# Altium footprint library Inductors SMD.PcbLib: 75 footprints (part 4 of 5)
Each footprint in its own frame and in the unit in brackets; x right, y up, seen from the top. Pads: shape width x height; smd on the part's side, far side on the other; paste and mask are expansions set on the pad; w line width, h text height; cw(c..) or ccw(c..) is an arc to the next point about the centre after c.
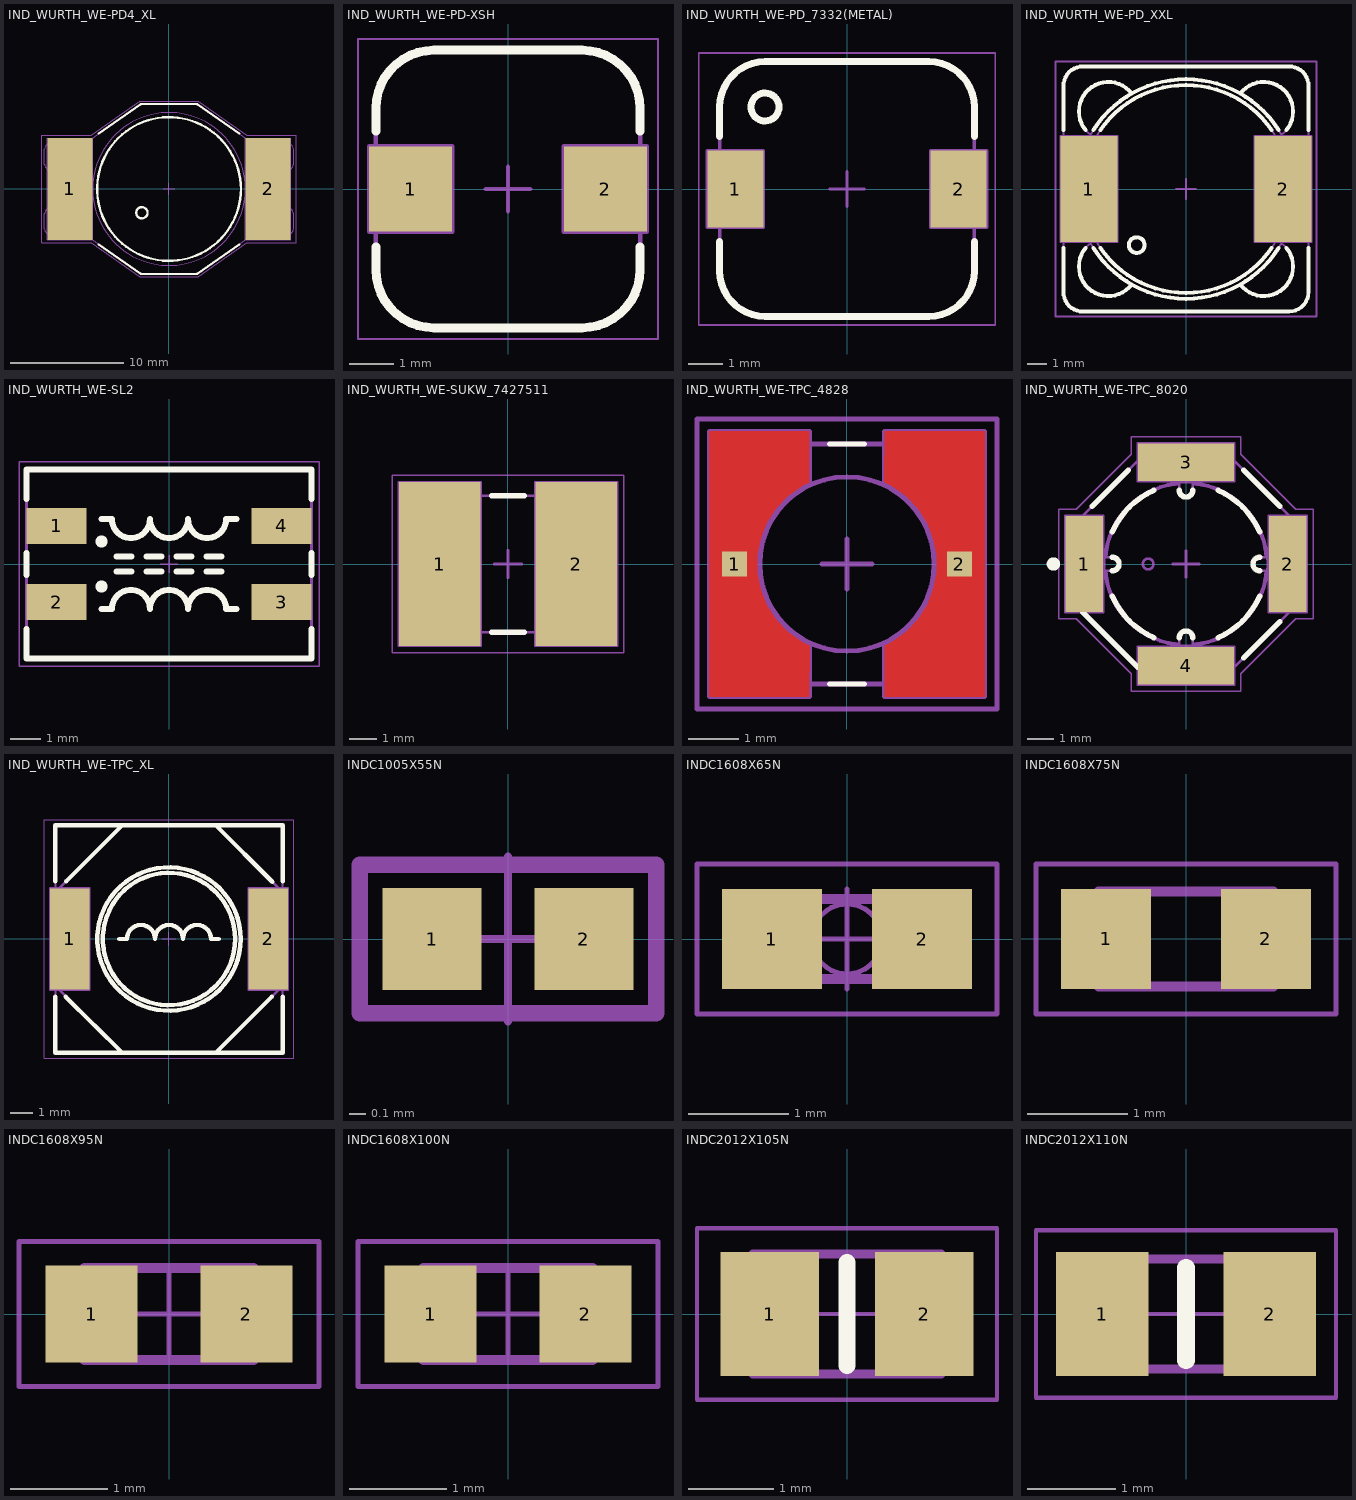
[diagram p3: the footprints below, top view; thin cyan lines are the x and y axes]

## IND_WURTH_WE-PD4_XL [mm] "SMD Power Choke, Body Width 15mm Body Lenght 15mm Height 7.8mm, WURTH WE-PD 4 Serie Type XL"
height 7.8
pads (2):
  rect 4x9 smd: 1(-8.75,0) 2(8.75,0)
Top Overlay:
  circle w0.2: c-2.395,-2.099 r0.5
  circle w0.2: c0,0 r6.35
  lines w0.2: -6.214,-4.9 -2.552,-7.464 ccw(c-2.437,-7.3) -2.437,-7.5 2.437,-7.5 ccw(c2.437,-7.3) 2.552,-7.464 6.214,-4.9 ; -6.214,4.9 -2.552,7.464 cw(c-2.437,7.3) -2.437,7.5 2.437,7.5 cw(c2.437,7.3) 2.552,7.464 6.214,4.9
Mechanical 8:
  lines w0.1: -9.25,0 -8.75,0 ; -8.75,-0.5 -8.75,0 ; -8.75,0.5 -8.75,0 ; -8.25,0 -8.75,0 ; -0.5,0 0,0 ; 0,-0.5 0,0 ; 0,0.5 0,0 ; 0.5,0 0,0 ; 8.25,0 8.75,0 ; 8.75,-0.5 8.75,0 ; 8.75,0.5 8.75,0 ; 9.25,0 8.75,0 ; -10.75,-4.5 -6.75,-4.5 -6.75,4.5 -10.75,4.5 -10.75,-4.5 ; 6.75,-4.5 10.75,-4.5 10.75,4.5 6.75,4.5 6.75,-4.5
Mechanical 14:
  circle w0.1: c-2.395,-2.099 r0.5
  circle w0.1: c0,0 r6.75
  lines w0.1: -9.8,-3 -10,-3 -10,-3.5 cw(c-10.5,-3.5) -11,-3.5 -11,-2.2 cw(c-10.5,-2.2) -10.852,-1.845 -10.059,-1.059 ccw(c-10.2,-0.917) -10,-0.917 -10,0.917 ccw(c-10.2,0.917) -10.059,1.059 -10.852,1.845 cw(c-10.5,2.2) -11,2.2 -11,3.5 cw(c-10.5,3.5) -10,3.5 -10,3 -9.8,3 ; -7.5,-3.896 ccw(c-7.3,-3.896) -7.415,-4.06 -2.552,-7.464 ccw(c-2.437,-7.3) -2.437,-7.5 2.437,-7.5 ccw(c2.437,-7.3) 2.552,-7.464 7.415,-4.06 ccw(c7.3,-3.896) 7.5,-3.896 ; -7.5,3.896 cw(c-7.3,3.896) -7.415,4.06 -2.552,7.464 cw(c-2.437,7.3) -2.437,7.5 2.437,7.5 cw(c2.437,7.3) 2.552,7.464 7.415,4.06 cw(c7.3,3.896) 7.5,3.896 ; 9.8,-3 10,-3 10,-3.5 ccw(c10.5,-3.5) 11,-3.5 11,-2.2 ccw(c10.5,-2.2) 10.852,-1.845 10.059,-1.059 cw(c10.2,-0.917) 10,-0.917 10,0.917 cw(c10.2,0.917) 10.059,1.059 10.852,1.845 ccw(c10.5,2.2) 11,2.2 11,3.5 ccw(c10.5,3.5) 10,3.5 10,3 9.8,3 ; -9.8,-4 -9.8,4 -7.5,4 -7.5,-4 -9.8,-4 ; 7.5,-4 7.5,4 9.8,4 9.8,-4 7.5,-4
Mechanical 15:
  lines w0.1: -11.25,-4.75 -6.865,-4.75 -2.579,-7.75 2.579,-7.75 6.865,-4.75 11.25,-4.75 11.25,4.75 6.865,4.75 2.579,7.75 -2.579,7.75 -6.865,4.75 -11.25,4.75 -11.25,-4.75
3D body "IND_WURTH_WE-PD4-XL.stp": height 7, standoff 0, extent -11,-7.5 11,7.5

## IND_WURTH_WE-PD-XSH [mm] "Power-Choke Inductor, Body 6.2x5.9mm, WURTH WE-PD Serie Type XSH"
height 5.1
pads (2):
  rect 1.85x1.9 smd: 1(-2.175,0) 2(2.175,0)
Top Overlay:
  lines w0.2: -2.95,-1.3 -2.95,-1.8 ccw(c-1.65,-1.8) -1.65,-3.1 1.65,-3.1 ccw(c1.65,-1.8) 2.95,-1.8 2.95,-1.3 ; -2.95,1.3 -2.95,1.8 cw(c-1.65,1.8) -1.65,3.1 1.65,3.1 cw(c1.65,1.8) 2.95,1.8 2.95,1.3
Mechanical 8:
  lines w0.1: -2.675,0 -2.175,0 ; -2.175,-0.5 -2.175,0 ; -2.175,0.5 -2.175,0 ; -1.675,0 -2.175,0 ; -0.5,0 0,0 ; 0,-0.5 0,0 ; 0,0.5 0,0 ; 0.5,0 0,0 ; 1.675,0 2.175,0 ; 2.175,-0.5 2.175,0 ; 2.175,0.5 2.175,0 ; 2.675,0 2.175,0 ; -3.1,-0.95 -1.25,-0.95 -1.25,0.95 -3.1,0.95 -3.1,-0.95 ; 1.25,-0.95 3.1,-0.95 3.1,0.95 1.25,0.95 1.25,-0.95
Mechanical 14:
  lines w0.1: -2.95,-1.8 ccw(c-1.65,-1.8) -1.65,-3.1 1.65,-3.1 ccw(c1.65,-1.8) 2.95,-1.8 2.95,1.8 ccw(c1.65,1.8) 1.65,3.1 -1.65,3.1 ccw(c-1.65,1.8) -2.95,1.8 -2.95,-1.8
Mechanical 15:
  lines w0.05: -3.35,-3.35 3.35,-3.35 3.35,3.35 -3.35,3.35 -3.35,-3.35
3D body "IND_WURTH_WE-PD-XSH.stp": height 5.1, standoff 0, extent -2.95,-3.1 2.95,3.1

## IND_WURTH_WE-PD_7332(METAL) [mm] "Power Choke, WE-PD Serie, Body 7.3x7.3mm (Metal Base)"
height 3.4
pads (2):
  rect 1.6x2.2 smd: 1(-3.2,0) 2(3.2,0)
Top Overlay:
  circle w0.2: c-2.35,2.35 r0.4
  lines w0.2: -3.65,-1.5 -3.65,-2.35 ccw(c-2.35,-2.35) -2.35,-3.65 2.35,-3.65 ccw(c2.35,-2.35) 3.65,-2.35 3.65,-1.5 ; -3.65,1.5 -3.65,2.35 cw(c-2.35,2.35) -2.35,3.65 2.35,3.65 cw(c2.35,2.35) 3.65,2.35 3.65,1.5
Mechanical 8:
  lines w0.1: -3.7,0 -3.2,0 ; -3.2,-0.5 -3.2,0 ; -3.2,0.5 -3.2,0 ; -2.7,0 -3.2,0 ; -0.5,0 0,0 ; 0,-0.5 0,0 ; 0,0.5 0,0 ; 0.5,0 0,0 ; 2.7,0 3.2,0 ; 3.2,-0.5 3.2,0 ; 3.2,0.5 3.2,0 ; 3.7,0 3.2,0 ; -2.4,-1.1 -4,-1.1 -4,1.1 -2.4,1.1 ; -2.4,-1.1 -2.4,1.1 ; -2.4,-1.1 -2.4,1.1 ; 4,-1.1 2.4,-1.1 2.4,1.1 4,1.1 ; 4,-1.1 4,1.1 ; 4,-1.1 4,1.1
Mechanical 14:
  circle w0.1: c-2.35,2.35 r0.4
  lines w0.1: -3.65,-2.35 ccw(c-2.35,-2.35) -2.35,-3.65 2.35,-3.65 ccw(c2.35,-2.35) 3.65,-2.35 3.65,2.35 ccw(c2.35,2.35) 2.35,3.65 -2.35,3.65 ccw(c-2.35,2.35) -3.65,2.35 -3.65,-2.35
Mechanical 15:
  lines w0.05: -4.25,-3.9 -4.25,3.9 4.25,3.9 4.25,-3.9 -4.25,-3.9
3D body "IND_WURTH_WE-PD_7332(METAL).stp": height 3.4, standoff 0, extent -3.65,-3.65 3.65,3.65

## IND_WURTH_WE-PD_XXL [mm] "Power-Choke Inductor, Body 12x12mm, WURTH WE-PD Serie Type XXL"
height 10
pads (2):
  rect 2.9x5.4 smd: 1(-4.95,0) 2(4.95,0)
Top Overlay:
  circle w0.2: c-2.51,-2.86 r0.4
  lines w0.2: -6.25,-3 -6.25,-5.25 ccw(c-5.25,-5.25) -5.25,-6.25 5.25,-6.25 ccw(c5.25,-5.25) 6.25,-5.25 6.25,-3 ; -6.25,3 -6.25,5.25 cw(c-5.25,5.25) -5.25,6.25 5.25,6.25 cw(c5.25,5.25) 6.25,5.25 6.25,3 ; -5.113,-3 ccw(c-3.96,-3.96) -2.767,-4.869 ; -5.113,3 cw(c-3.96,3.96) -2.767,4.869 ; -4.729,-3 ccw(c0,0) 4.729,-3 ; -4.729,3 cw(c0,0) 4.729,3 ; -4.369,-3 ccw(c0,0) 4.369,-3 ; -4.369,3 cw(c0,0) 4.369,3 ; 2.767,-4.869 ccw(c3.96,-3.96) 5.113,-3 ; 2.767,4.869 cw(c3.96,3.96) 5.113,3
Mechanical 8:
  lines w0.1: -5.45,0 -4.95,0 ; -4.95,-0.5 -4.95,0 ; -4.95,0.5 -4.95,0 ; -4.45,0 -4.95,0 ; -0.5,0 0,0 ; 0,-0.5 0,0 ; 0,0.5 0,0 ; 0.5,0 0,0 ; 4.45,0 4.95,0 ; 4.95,-0.5 4.95,0 ; 4.95,0.5 4.95,0 ; 5.45,0 4.95,0 ; -3.5,-2.7 -3.5,2.7 ; -3.5,-2.7 -3.5,2.7 ; -3.5,-2.7 -6.4,-2.7 -6.4,2.7 -3.5,2.7 ; 3.5,-2.7 3.5,2.7 ; 3.5,-2.7 6.4,-2.7 6.4,2.7 3.5,2.7 ; 3.5,-2.7 3.5,2.7
Mechanical 14:
  circle w0.1: c-2.51,-2.86 r0.4
  circle w0.1: c0,0 r5.3
  circle w0.1: c0,0 r5.6
  lines w0.1: -4.869,-2.767 ccw(c-3.96,-3.96) -2.767,-4.869 ; -4.869,2.767 cw(c-3.96,3.96) -2.767,4.869 ; 2.767,-4.869 ccw(c3.96,-3.96) 4.869,-2.767 ; 2.767,4.869 cw(c3.96,3.96) 4.869,2.767 ; -6.25,-5.25 ccw(c-5.25,-5.25) -5.25,-6.25 5.25,-6.25 ccw(c5.25,-5.25) 6.25,-5.25 6.25,5.25 ccw(c5.25,5.25) 5.25,6.25 -5.25,6.25 ccw(c-5.25,5.25) -6.25,5.25 -6.25,-5.25
Mechanical 15:
  lines w0.1: -6.65,-6.5 -6.65,6.5 6.65,6.5 6.65,-6.5 -6.65,-6.5
3D body "IND_WURTH_WE-PD-XXL.stp": height 10, standoff 0, extent -6.25,-6.25 6.25,6.25

## IND_WURTH_WE-SL2 [mm] "Common Mode SMD Line Filter WE-SL2"
height 1.45
pads (4):
  rect 2x1.2 smd: 1(-3.75,1.27) 2(-3.75,-1.27) 3(3.75,-1.27) 4(3.75,1.27)
Top Overlay:
  circle w0.2: c-2.25,-0.75 r0.1
  circle w0.2: c-2.25,0.75 r0.1
  lines w0.2: -4.75,-2.175 -4.75,-3.15 4.75,-3.15 4.75,-2.175 ; -4.75,-0.365 -4.75,0.365 ; -4.75,2.175 -4.75,3.15 4.75,3.15 4.75,2.175 ; -2.25,-1.5 -1.905,-1.5 cw(c-1.27,-1.5) -0.635,-1.5 cw(c0,-1.5) 0.635,-1.5 cw(c1.27,-1.5) 1.905,-1.5 2.25,-1.5 ; -2.25,1.5 -1.905,1.5 ccw(c-1.27,1.5) -0.635,1.5 ccw(c0,1.5) 0.635,1.5 ccw(c1.27,1.5) 1.905,1.5 2.25,1.5 ; -1.75,-0.25 -1.25,-0.25 ; -1.75,0.25 -1.25,0.25 ; -0.75,-0.25 -0.25,-0.25 ; -0.75,0.25 -0.25,0.25 ; 0.25,-0.25 0.75,-0.25 ; 0.25,0.25 0.75,0.25 ; 1.25,-0.25 1.75,-0.25 ; 1.25,0.25 1.75,0.25 ; 4.75,-0.365 4.75,0.365
Mechanical 14:
  circle w0.1: c-2.25,-0.75 r0.1
  circle w0.1: c-2.25,0.75 r0.1
  lines w0.1: -2.25,-1.5 -1.905,-1.5 cw(c-1.27,-1.5) -0.635,-1.5 cw(c0,-1.5) 0.635,-1.5 cw(c1.27,-1.5) 1.905,-1.5 2.25,-1.5 ; -2.25,1.5 -1.905,1.5 ccw(c-1.27,1.5) -0.635,1.5 ccw(c0,1.5) 0.635,1.5 ccw(c1.27,1.5) 1.905,1.5 2.25,1.5 ; -1.75,-0.25 -1.25,-0.25 ; -1.75,0.25 -1.25,0.25 ; -0.75,-0.25 -0.25,-0.25 ; -0.75,0.25 -0.25,0.25 ; 0.25,-0.25 0.75,-0.25 ; 0.25,0.25 0.75,0.25 ; 1.25,-0.25 1.75,-0.25 ; 1.25,0.25 1.75,0.25 ; -4.75,-3.15 -4.75,3.15 4.75,3.15 4.75,-3.15 -4.75,-3.15
Mechanical 15:
  lines w0.05: -0.3,0 0.3,0 ; 0,-0.3 0,0.3 ; -5,-3.4 -5,3.4 5,3.4 5,-3.4 -5,-3.4
3D body "IND_WURTH_WE-SL2.stp": height 5.3, standoff 0, extent -4.749,-3.149 4.751,3.151

## IND_WURTH_WE-SUKW_7427511 [mm] "WE-SUKW SMD EMI Suppression 5-Hole Ferrite Bead, Body 8x5mm"
height 5.1
pads (2):
  rect 3x6 smd: 1(-2.5,0) 2(2.5,0)
Top Overlay:
  lines w0.2: -0.6,-2.5 0.6,-2.5 ; -0.6,2.5 0.6,2.5
Mechanical 8:
  lines w0.1: -3,0 -2.5,0 ; -2.5,-0.5 -2.5,0 ; -2.5,0.5 -2.5,0 ; -2,0 -2.5,0 ; -0.5,0 0,0 ; 0,-0.5 0,0 ; 0,0.5 0,0 ; 0.5,0 0,0 ; 2,0 2.5,0 ; 2.5,-0.5 2.5,0 ; 2.5,0.5 2.5,0 ; 3,0 2.5,0 ; -4,-3 -1,-3 -1,3 -4,3 -4,-3 ; 1,-3 4,-3 4,3 1,3 1,-3
Mechanical 14:
  drawing of 3064 lines, arcs and shapes, not listed
Mechanical 15:
  lines w0.05: -4.25,-3.25 -4.25,3.25 4.25,3.25 4.25,-3.25 -4.25,-3.25
3D body "IND_WURTH_WE-SUKW_7427511.stp": height 4.85, standoff 0, extent -4,-2.625 4,2.625

## IND_WURTH_WE-TPC_4828 [mm] "Shielded Tiny Power Inductor, Body 4.8x4.8mm"
height 2.8
pads (2):
  rect 0.5x0.5 smd: 1(-2.247,0) 2(2.247,0)
Top Layer:
  region: 0.75,-2.65 2.75,-2.65 2.75,2.65 0.75,2.65 0.75,1.636 0.902,1.558 1.18,1.359 1.416,1.112 1.6,0.824 1.727,0.507 1.792,0.171 1.792,-0.171 1.727,-0.507 1.6,-0.824 1.416,-1.112 1.18,-1.359 0.902,-1.558 0.75,-1.636
  region: -2.75,-2.65 -0.75,-2.65 -0.75,-1.636 -0.902,-1.558 -1.18,-1.359 -1.416,-1.112 -1.6,-0.824 -1.727,-0.507 -1.792,-0.171 -1.792,0.171 -1.727,0.507 -1.6,0.824 -1.416,1.112 -1.18,1.359 -0.902,1.558 -0.75,1.636 -0.75,2.65 -2.75,2.65
Top Overlay:
  lines w0.1: -0.35,-2.4 0.35,-2.4 ; -0.35,2.4 0.35,2.4
Mechanical 8:
  lines w0.1: -2.747,0 -2.247,0 ; -2.247,-0.5 -2.247,0 ; -2.247,0.5 -2.247,0 ; -1.747,0 -2.247,0 ; -0.5,0 0,0 ; 0,-0.5 0,0 ; 0,0.5 0,0 ; 0.5,0 0,0 ; 1.747,0 2.247,0 ; 2.247,-0.5 2.247,0 ; 2.247,0.5 2.247,0 ; 2.747,0 2.247,0 ; -2.75,-2.65 -2.75,2.65 -0.75,2.65 -0.75,1.636 ccw(c0,0) -0.75,-1.636 -0.75,-2.65 -2.75,-2.65 ; 0.75,-2.65 0.75,-1.636 ccw(c0,0) 0.75,1.636 0.75,2.65 2.75,2.65 2.75,-2.65 0.75,-2.65
Mechanical 14:
  circle w0.1: c0,0 r1.744
  lines w0.1: -2.4,-2.4 2.4,-2.4 2.4,2.4 -2.4,2.4 -2.4,-2.4
Mechanical 15:
  lines w0.1: -3,-2.9 -3,2.9 3,2.9 3,-2.9 -3,-2.9
3D body "IND_WURTH_WE-TPC-4828.stp": height 2.8, standoff 0, extent -2.4,-2.4 2.4,2.4

## IND_WURTH_WE-TPC_8020 [mm] "Power Choke Inductor, Body 8x8mm"
height 2
pads (4):
  rect 1.4x3.6 smd: 1(-3.8,0) 2(3.8,0)
  rect 3.6x1.4 smd: 3(0,3.8) 4(0,-3.8)
Top Overlay:
  circle w0.25: c-4.95,0 r0.125
  lines w0.2: -3.857,-1.8 -1.8,-3.857 ; -3.507,2.15 -2.15,3.507 ; -2.75,-1.199 ccw(c0,0) -1.199,-2.75 ; -2.75,-0.25 ccw(c-2.75,0) -2.75,0.25 ; -2.75,1.199 cw(c0,0) -1.199,2.75 ; -0.25,-2.75 cw(c0,-2.75) 0.25,-2.75 ; -0.25,2.75 ccw(c0,2.75) 0.25,2.75 ; 1.199,-2.75 ccw(c0,0) 2.75,-1.199 ; 1.199,2.75 cw(c0,0) 2.75,1.199 ; 2.15,-3.507 3.507,-2.15 ; 2.15,3.507 3.507,2.15 ; 2.75,-0.25 cw(c2.75,0) 2.75,0.25
Mechanical 8:
  lines w0.1: -4.3,0 -3.8,0 ; -3.8,-0.5 -3.8,0 ; -3.8,0.5 -3.8,0 ; -3.3,0 -3.8,0 ; -0.5,-3.8 0,-3.8 ; -0.5,0 0,0 ; -0.5,3.8 0,3.8 ; 0,-4.3 0,-3.8 ; 0,-3.3 0,-3.8 ; 0,-0.5 0,0 ; 0,0.5 0,0 ; 0,3.3 0,3.8 ; 0,4.3 0,3.8 ; 0.5,-3.8 0,-3.8 ; 0.5,0 0,0 ; 0.5,3.8 0,3.8 ; 3.3,0 3.8,0 ; 3.8,-0.5 3.8,0 ; 3.8,0.5 3.8,0 ; 4.3,0 3.8,0 ; -4.5,-1.8 -4.5,1.8 -3.1,1.8 -3.1,-1.8 -4.5,-1.8 ; -1.8,-4.5 1.8,-4.5 1.8,-3.1 -1.8,-3.1 -1.8,-4.5 ; -1.8,3.1 1.8,3.1 1.8,4.5 -1.8,4.5 -1.8,3.1 ; 3.1,-1.8 3.1,1.8 4.5,1.8 4.5,-1.8 3.1,-1.8
Mechanical 14:
  circle w0.1: c-1.415,0 r0.2
  circle w0.1: c0,0 r3.05
  lines w0.1: -4,-1.657 -1.657,-4 1.657,-4 4,-1.657 4,1.657 1.657,4 -1.657,4 -4,1.657 -4,-1.657 ; -2.99,-0.25 ccw(c0,0) -0.25,-2.99 -0.25,-2.75 cw(c0,-2.75) 0.25,-2.75 0.25,-2.99 ccw(c0,0) 2.99,-0.25 2.75,-0.25 cw(c2.75,0) 2.75,0.25 2.99,0.25 ccw(c0,0) 0.25,2.99 0.25,2.75 cw(c0,2.75) -0.25,2.75 -0.25,2.99 ccw(c0,0) -2.99,0.25 -2.75,0.25 cw(c-2.75,0) -2.75,-0.25 -2.99,-0.25
Mechanical 15:
  lines w0.05: -4.75,-2.05 -4.75,2.05 -4.104,2.05 -2.05,4.104 -2.05,4.75 2.05,4.75 2.05,4.104 4.104,2.05 4.75,2.05 4.75,-2.05 4.104,-2.05 2.05,-4.104 2.05,-4.75 -2.05,-4.75 -2.05,-4.104 -4.104,-2.05 -4.75,-2.05
3D body "IND_WURTH_WE-TPC-8020.stp": height 1.8, standoff 0, extent -4,-4 4,4

## IND_WURTH_WE-TPC_XL [mm] "Shielded Tiny Power Inductor, Body 10.3x10.3mm"
height 3.1
pads (2):
  rect 1.8x4.6 smd: 1(-4.5,0) 2(4.5,0)
Top Overlay:
  circle w0.2: c0,0 r3
  circle w0.2: c0,0 r3.25
  lines w0.2: -5.15,-2.625 -5.15,-5.15 5.15,-5.15 5.15,-2.625 ; -5.15,2.625 -5.15,5.15 5.15,5.15 5.15,2.625 ; -4.675,-2.625 -2.133,-5.15 ; -4.65,2.625 -2.133,5.15 ; -2.25,0 -1.905,0 cw(c-1.27,0) -0.635,0 cw(c0,0) 0.635,0 cw(c1.27,0) 1.905,0 2.25,0 ; 2.133,-5.15 4.65,-2.625 ; 2.133,5.15 4.675,2.6
Mechanical 8:
  lines w0.1: -5.4,-2.3 -5.4,2.3 -3.6,2.3 -3.6,-2.3 -5.4,-2.3 ; 3.6,-2.3 3.6,2.3 5.4,2.3 5.4,-2.3 3.6,-2.3
Mechanical 14:
  circle w0.1: c0,0 r3.25
  circle w0.1: c0,0 r3
  lines w0.1: -5.15,-2.133 -2.133,-5.15 ; -5.15,2.133 -2.133,5.15 ; -2.25,0 -1.905,0 cw(c-1.27,0) -0.635,0 cw(c0,0) 0.635,0 cw(c1.27,0) 1.905,0 2.25,0 ; 2.133,-5.15 5.15,-2.133 ; 2.133,5.15 5.15,2.133 ; -5.15,-5.15 5.15,-5.15 5.15,5.15 -5.15,5.15 -5.15,-5.15
Mechanical 15:
  lines w0.05: -0.3,0 0.3,0 ; 0,-0.3 0,0.3 ; -5.65,-5.4 5.65,-5.4 5.65,5.4 -5.65,5.4 -5.65,-5.4
3D body "IND_WURTH_WE-TPC-XL.stp": height 3.1, standoff 0, extent -5.155,-5.155 5.145,5.145

## INDC1005X55N [mm] "Chip Inductor, 2-Leads, EIA 0402, Metric 1005, Body 1x0.5mm, 0402IPC Medium Density"
height 0.55
pads (2):
  rect 0.6x0.62 smd: 1(-0.46,0) 2(0.46,0)
Mechanical 14:
  lines w0.1: -0.9,-0.45 -0.9,0.45 0.9,0.45 0.9,-0.45 -0.9,-0.45
Mechanical 15:
  lines w0.05: -0.5,0 0.5,0 ; 0,-0.5 0,0.5 ; -0.91,-0.46 -0.91,0.46 0.91,0.46 0.91,-0.46 -0.91,-0.46
3D body "INDC1005X55N.stp": height 0.55, standoff 0, extent -0.525,-0.275 0.525,0.275

## INDC1608X65N [mm] "Chip Inductor, 2-Leads, EIA 0603, Metric 1608, Body 1.6x0.8mm, IPC Medium Density"
height 0.65
pads (2):
  rect 1x1 smd: 1(-0.75,0) 2(0.75,0)
Mechanical 14:
  lines w0.1: -0.8,-0.4 0.8,-0.4 0.8,0.4 -0.8,0.4 -0.8,-0.4
Mechanical 15:
  circle w0.05: c0,0 r0.35
  lines w0.05: -0.5,0 0.5,0 ; 0,-0.5 0,0.5 ; -1.5,-0.75 1.5,-0.75 1.5,0.75 -1.5,0.75 -1.5,-0.75
3D body "INDC1608X65N.stp": height 0.65, standoff 0, extent -0.875,-0.475 0.875,0.475

## INDC1608X75N [mm] "Chip Inductor, 2-Leads, EIA 0603, Metric 1608, Body 1.6x0.8mm, IPC Medium Density"
height 0.75
pads (2):
  rect 0.9x1 smd: 1(-0.8,0) 2(0.8,0)
Mechanical 8:
  lines w0.025: -0.575,-0.475 -0.575,0.475 ; 0.575,-0.475 0.575,0.475 ; -0.875,-0.475 -0.875,0.475 0.875,0.475 0.875,-0.475 -0.875,-0.475
Mechanical 14:
  lines w0.1: -0.875,-0.475 0.875,-0.475 0.875,0.475 -0.875,0.475 -0.875,-0.475
Mechanical 15:
  lines w0.05: -1.5,-0.75 1.5,-0.75 1.5,0.75 -1.5,0.75 -1.5,-0.75
3D body "INDC1608X75N.stp": height 0.7, standoff -0.05, extent -0.875,-0.475 0.875,0.475

## INDC1608X95N [mm] "Chip Inductor, 2-Leads, EIA 0603, Metric 1608, Body 1.6x0.8mm, IPC Medium Density"
height 0.95
pads (2):
  rect 0.95x1 smd: 1(-0.8,0) 2(0.8,0)
Mechanical 14:
  lines w0.1: -0.875,-0.475 -0.875,0.475 0.875,0.475 0.875,-0.475 -0.875,-0.475
Mechanical 15:
  lines w0.05: -0.5,0 0.5,0 ; 0,-0.5 0,0.5 ; -1.55,-0.75 -1.55,0.75 1.55,0.75 1.55,-0.75 -1.55,-0.75
3D body "INDC1608X95N.stp": height 0.95, standoff -0.05, extent -0.875,-0.475 0.875,0.475

## INDC1608X100N [mm] "Chip Inductor, 2-Leads, EIA 0603, Metric 1608, Body 1.6x0.8mm, IPC Medium Density"
height 1
pads (2):
  rect 0.95x1 smd: 1(-0.8,0) 2(0.8,0)
Mechanical 14:
  lines w0.1: -0.875,-0.475 0.875,-0.475 0.875,0.475 -0.875,0.475 -0.875,-0.475
Mechanical 15:
  lines w0.05: -0.5,0 0.5,0 ; 0,-0.5 0,0.5 ; -1.55,-0.75 1.55,-0.75 1.55,0.75 -1.55,0.75 -1.55,-0.75
3D body "INDC1608X100N.stp": height 1, standoff -0.05, extent -0.875,-0.475 0.875,0.475

## INDC2012X105N [mm] "Chip Inductor, EIA 0805, Metric 2012, Body 2.0x1.25mm, IPC Medium Density"
height 1.05
pads (2):
  rect 1.15x1.45 smd: 1(-0.9,0) 2(0.9,0)
Top Overlay:
  lines w0.2: 0,-0.6 0,0.6
Mechanical 14:
  lines w0.1: -1.1,-0.7 1.1,-0.7 1.1,0.7 -1.1,0.7 -1.1,-0.7
Mechanical 15:
  lines w0.05: -0.5,0 0.5,0 ; 0,-0.5 0,0.5 ; -1.75,-1 1.75,-1 1.75,1 -1.75,1 -1.75,-1
3D body "INDC2012X110N.stp": height 1.1, standoff 0, extent -1.1,-0.7 1.1,0.7

## INDC2012X110N [mm] "Chip Inductor, EIA 0805, Metric 2012, Body 2.0x1.2mm, IPC Medium Density"
height 1.1
pads (2):
  rect 1.05x1.4 smd: 1(-0.95,0) 2(0.95,0)
Top Overlay:
  lines w0.2: 0,-0.525 0,0.525
Mechanical 14:
  lines w0.1: -1,-0.625 -1,0.625 1,0.625 1,-0.625 -1,-0.625
Mechanical 15:
  lines w0.05: -0.5,0 0.5,0 ; 0,-0.5 0,0.5 ; -1.7,-0.95 -1.7,0.95 1.7,0.95 1.7,-0.95 -1.7,-0.95
3D body "INDC2012X110N.stp": height 1.1, standoff 0, extent -1,-0.625 1,0.625